# Altium footprint library SOTFL50P160X85-3N.PcbLib: 1 footprints
Each footprint in its own frame and in the unit in brackets; x right, y up, seen from the top. Pads: shape width x height; smd on the part's side, far side on the other; paste and mask are expansions set on the pad; w line width, h text height; cw(c..) or ccw(c..) is an arc to the next point about the centre after c.
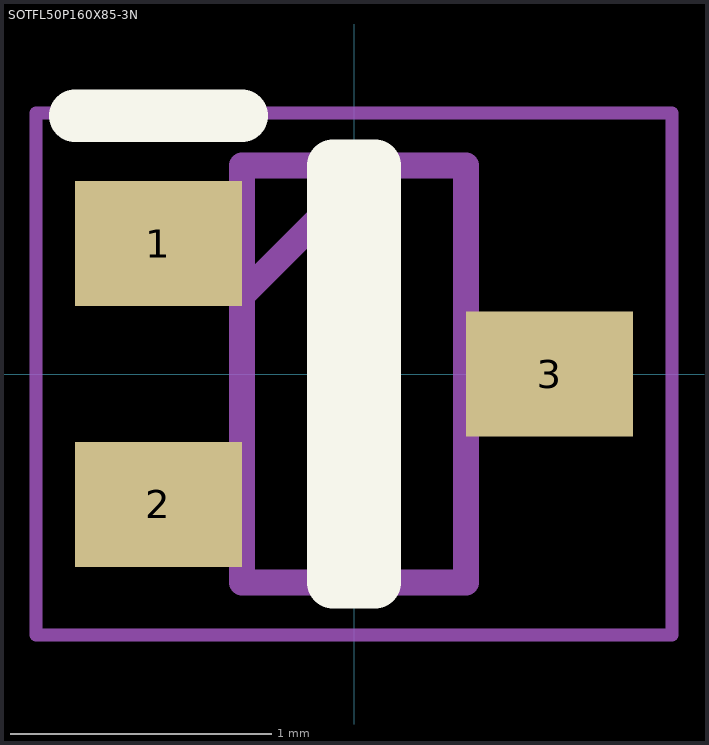
[diagram p0: the footprint, top view; thin cyan lines are the x and y axes]

## SOTFL50P160X85-3N [mm]
pads (3):
  rect 0.64x0.48 smd: 1(-0.75,0.5) 2(-0.75,-0.5) 3(0.75,0)
Top Overlay:
  lines w0.2: -1.07,0.99 -0.43,0.99 ; -0.08,-0.8 0.08,-0.8 0.08,0.8 -0.08,0.8 -0.08,-0.8
Mechanical 15:
  lines w0.1: -0.43,0.3 0.07,0.8 ; -0.43,-0.8 0.43,-0.8 0.43,0.8 -0.43,0.8 -0.43,-0.8
Mechanical 20:
  lines w0.05: -1.22,-1 1.22,-1 1.22,1 -1.22,1 -1.22,-1